# Altium footprint library SOIC127P600X175-14N.PcbLib: 1 footprints
Each footprint in its own frame and in the unit in brackets; x right, y up, seen from the top. Pads: shape width x height; smd on the part's side, far side on the other; paste and mask are expansions set on the pad; w line width, h text height; cw(c..) or ccw(c..) is an arc to the next point about the centre after c.
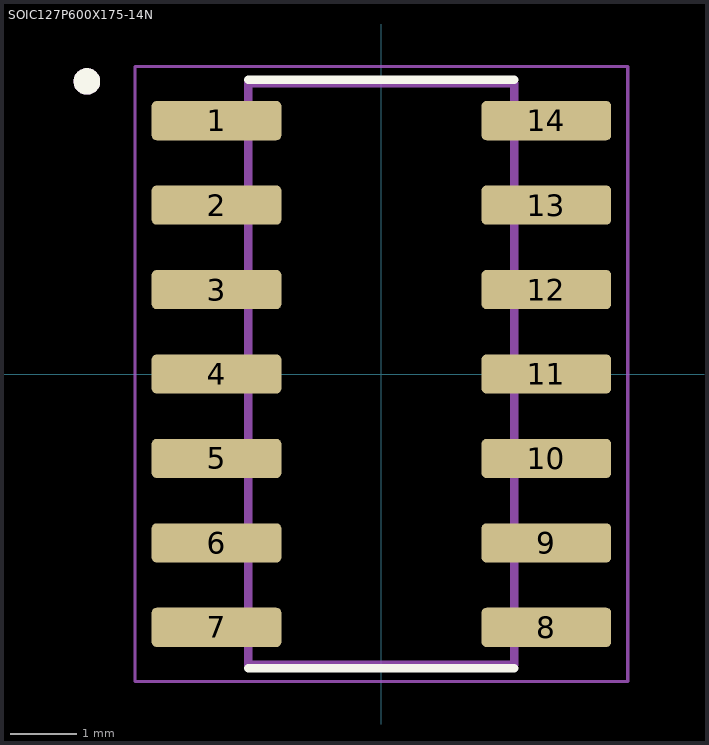
[diagram p0: the footprint, top view; thin cyan lines are the x and y axes]

## SOIC127P600X175-14N [mm]
pads (14):
  rrect25% 1.95x0.59 smd: 1(-2.48,3.81) 2(-2.48,2.54) 3(-2.48,1.27) 4(-2.48,0) 5(-2.48,-1.27) 6(-2.48,-2.54) 7(-2.48,-3.81) 8(2.48,-3.81) 9(2.48,-2.54) 10(2.48,-1.27) 11(2.48,0) 12(2.48,1.27) 13(2.48,2.54) 14(2.48,3.81)
Top Overlay:
  circle w0.2: c-4.43,4.4 r0.1
  lines w0.127: -2,-4.425 2,-4.425 ; -2,4.425 2,4.425
Mechanical 13:
  circle w0.2: c-4.43,4.4 r0.1
  lines w0.127: -2,-4.375 -2,4.375 2,4.375 2,-4.375 -2,-4.375
Mechanical 15:
  lines w0.05: -3.705,-4.625 -3.705,4.625 3.705,4.625 3.705,-4.625 -3.705,-4.625
3D body "MC14077BDG.STEP": height 1.75, standoff 0, extent -3.127,-4.325 2.873,4.325